# EAGLE library part 27C010A-10 (library Kunosheru)
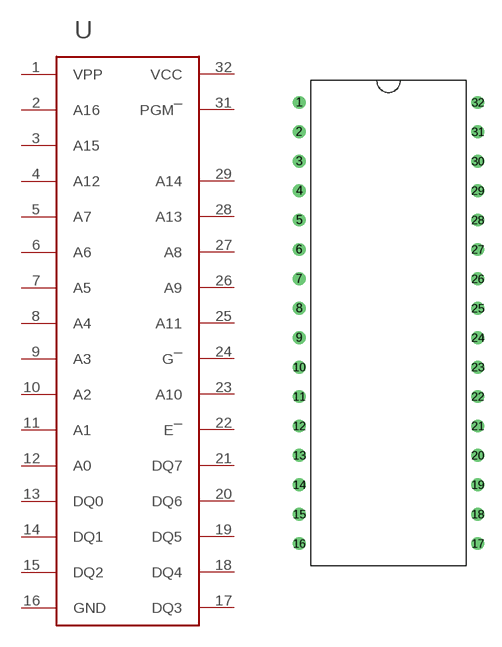
[diagram p10: symbol with the pads of 27C010A-10; footprint 27C010A-10]

Designator prefix -

## 27C010A-10  [27C010A-10]
1  VPP
2  A16
3  A15
4  A12
5  A7
6  A6
7  A5
8  A4
9  A3
10  A2
11  A1
12  A0
13  DQ0
14  DQ1
15  DQ2
16  GND
17  DQ3
18  DQ4
19  DQ5
20  DQ6
21  DQ7
22  E¯
23  A10
24  G¯
25  A11
26  A9
27  A8
28  A13
29  A14
31  PGM¯
32  VCC

## Footprint 27C010A-10 (pad centres in mm)
drill 0.6: 1 -7.71,19.05; 2 -7.71,16.51; 3 -7.71,13.97; 4 -7.71,11.43; 5 -7.71,8.89; 6 -7.71,6.35; 7 -7.71,3.81; 8 -7.71,1.27; 9 -7.71,-1.27; 10 -7.71,-3.81; 11 -7.71,-6.35; 12 -7.71,-8.89; 13 -7.71,-11.43; 14 -7.71,-13.97; 15 -7.71,-16.51; 16 -7.71,-19.05; 17 7.71,-19.05; 18 7.71,-16.51; 19 7.71,-13.97; 20 7.71,-11.43; 21 7.71,-8.89; 22 7.71,-6.35; 23 7.71,-3.81; 24 7.71,-1.27; 25 7.71,1.27; 26 7.71,3.81; 27 7.71,6.35; 28 7.71,8.89; 29 7.71,11.43; 30 7.71,13.97; 31 7.71,16.51; 32 7.71,19.05